# EAGLE library part 6873XX124422_687314124422 (library WR-FPC)
WR-FPC 0.50 mm SMT ZIF Vertical KIND PROPERTIES Pitch 0.5 mm MATERIAL PROPERTIES Insulator Material LCP Contact Material Phosphor Bronze Contact Plating 100 (µ") Tin over 50 (µ") Nickel Contact Type Stamped Solder Tabs Brass <https://www.we-online.com/catalog/media/o32874v209%20Family_WE-FPC_6873xx124422.jpg> Details see: https://www.we-online.com/catalog/en/FPC_0_5_SMT_ZIF_VERTICAL_6873XX124422/ Updated by Ella Wu 2020-08-26 2020(C) Wurth Elektronik
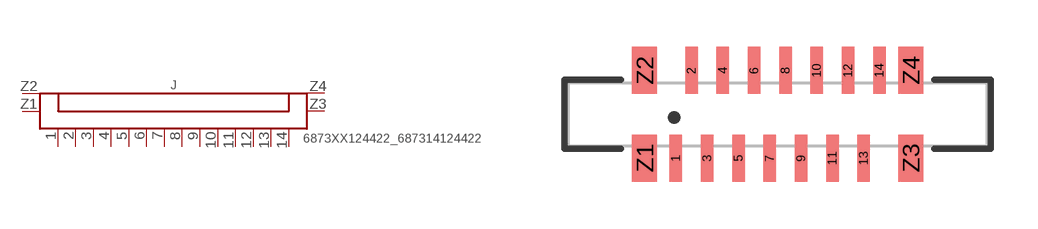
[diagram p98: symbol with the pads of 687314124422; footprint 687314124422]

Designator prefix J

## 6873XX124422_687314124422 (CONTACT-RESISTANCE: 20Ohm; DATASHEET-URL: https://www.we-online.com/catalog/datasheet/687314124422.pdf; IR: 0.5A; L: 13.4mm; PACKAGING: Tape and Reel with Cap; PART-NUMBER: 687314124422; PINS: 14; PITCH: 0.5mm; TYPE: Vertical; VALUE: 687314124422; WORKING-VOLTAGE: 50V(AC))  [687314124422]
1  1  pas
2  2  pas
3  3  pas
4  4  pas
5  5  pas
6  6  pas
7  7  pas
8  8  pas
9  9  pas
10  10  pas
11  11  pas
12  12  pas
13  13  pas
14  14  pas
Z1  Z1  pas
Z2  Z2  pas
Z3  Z3  pas
Z4  Z4  pas

## Footprint 687314124422 (pad centres in mm)
WR-FPC 0.50 mm SMT ZIF Vertical,pins 14
smd 0.4 x 1.5: 1 -3.25,-1.4; 2 -2.75,1.4; 3 -2.25,-1.4; 4 -1.75,1.4; 5 -1.25,-1.4; 6 -0.75,1.4; 7 -0.25,-1.4; 8 0.25,1.4; 9 0.75,-1.4; 10 1.25,1.4; 11 1.75,-1.4; 12 2.25,1.4; 13 2.75,-1.4; 14 3.25,1.4
smd 0.8 x 1.5: Z1 -4.25,-1.4; Z2 -4.25,1.4; Z3 4.25,-1.4; Z4 4.25,1.4